# Altium schematic symbol library Arduino Mini Pro.Schlib: 1 symbol
Pins are listed as number, name and electrical type; pins without a type are passive.

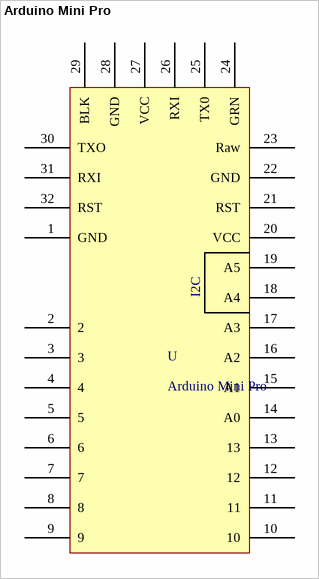
[diagram p0: symbol Arduino Mini Pro]

## Arduino Mini Pro
designator U
pins: 1 GND, 2, 3, 4, 5, 6, 7, 8, 9, 10, 11, 12, 13, 14 A0, 15 A1, 16 A2, 17 A3, 18 A4, 19 A5, 20 VCC, 21 RST, 22 GND, 23 Raw, 24 GRN, 25 TX0, 26 RXI, 27 VCC, 28 GND, 29 BLK, 30 TXO, 31 RXI, 32 RST
text: I2C